# Altium footprint library DB13W3P500M30LF.PcbLib: 1 footprints
Each footprint in its own frame and in the unit in brackets; x right, y up, seen from the top. Pads: shape width x height; smd on the part's side, far side on the other; paste and mask are expansions set on the pad; w line width, h text height; cw(c..) or ccw(c..) is an arc to the next point about the centre after c.
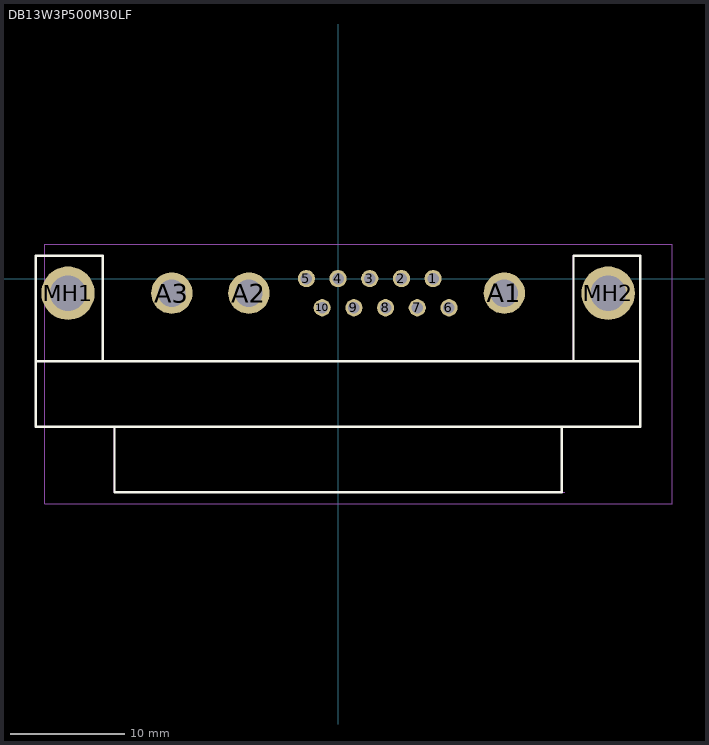
[diagram p0: the footprint, top view; thin cyan lines are the x and y axes]

## DB13W3P500M30LF [mm]
pads (15):
  round 1.5 hole 1: 1(8.28,0) 2(5.52,0) 3(2.76,0) 4(0,0) 5(-2.76,0) 6(9.66,-2.54) 7(6.9,-2.54) 8(4.14,-2.54) 9(1.38,-2.54) 10(-1.38,-2.54)
  round 3.6 hole 2.4: A1(14.48,-1.27) A2(-7.77,-1.27) A3(-14.48,-1.27)
  round 4.65 hole 3.1: MH1(-23.52,-1.27) MH2(23.52,-1.27)
Top Overlay:
  lines w0.2: -20.5,-7.21 -20.5,1.99 -26.325,1.99 -26.325,-7.21 ; -19.48,-12.91 -19.48,-18.61 19.48,-18.61 19.48,-12.91 ; 20.5,-7.21 20.5,1.99 26.325,1.99 ; 26.325,-12.91 -26.325,-12.91 -26.325,-7.21 ; 26.325,-7.21 -26.325,-7.21 ; 26.329,-12.91 26.329,-7.21 26.329,1.99
Mechanical 15:
  lines w0.1: -20.5,-7.21 -20.5,1.99 -26.325,1.99 -26.325,-7.21 ; 20.5,-7.21 20.5,1.99 26.325,1.99 ; 26.325,-12.91 -26.325,-12.91 -26.325,-7.21 ; 26.325,-7.21 -26.325,-7.21 ; 26.329,-12.91 26.329,-7.21 26.329,1.99 ; -19.48,-18.61 -19.48,-12.91 -19.48,-18.61 ; -19.226,-18.61 19.734,-18.61 -19.226,-18.61 ; 19.48,-18.61 19.48,-12.91 19.48,-18.61
Mechanical 20:
  lines w0.1: -25.547,-19.61 29.103,-19.61 29.103,2.99 -25.547,2.99 -25.547,-19.61
3D body "DB13W3P500M30LF.stp": height 13.57, standoff -3.9, extent -26.52,-18.55 26.52,1.83